# Altium schematic symbol library AD5446YRMZ.SchLib: 1 symbol
Pins are listed as number, name and electrical type; pins without a type are passive.

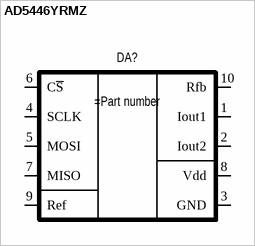
[diagram p0: symbol AD5446YRMZ]

## AD5446YRMZ
designator DA?
14-Bit High Bandwidth Multiplying DACs with Serial Interface
pins: 1 Iout1, 2 Iout2, 3 GND, 4 SCLK, 5 MOSI, 6 C~{S}, 7 MISO, 8 Vdd, 9 Ref, 10 Rfb